# Altium schematic symbol library BMAP_2pin_terminal.SchLib: 1 symbol
Pins are listed as number, name and electrical type; pins without a type are passive.

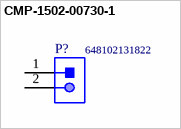
[diagram p0: symbol CMP-1502-00730-1]

## CMP-1502-00730-1
designator P?, comment 648102131822
Male Shrouded Header WR-WTB, SMT, Right Angled, pitch 1.5 mm, 1 x 2 position; Manufacturer: Wurth Elektronik; Working Voltage: 50VAC; Contact Resistance: 20mOhm; Position: 1x2; Pitch: 1.5mm; Manufacturer URL: http://www.we-online.de; Package Reference: 648102131822; Datasheet URL: https://katalog.we-online.de/em/datasheet/6481xx131822.pdf; Gender: Male; Operating Temperature: -25to85degC; Part Number: 648102131822; Publisher: WurthElektronik; Packaging: TapeandReel; Mounting Technology: SMT; Orientation: RightAngled
footprint 648102131822 (1.50mm SMT Male Horizontal Shrouded Header, 2p)
pins: 1, 2